# EAGLE library part FDG6316P (library alvie)
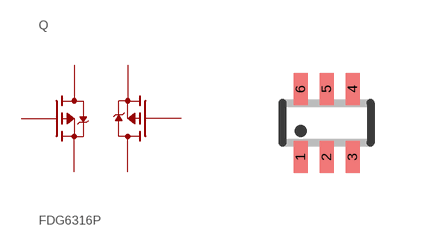
[diagram p33: symbol with the pads of SC70-6; footprint SC70-6]

Designator prefix Q

## FDG6316P  [SC70-6]
1  S1  pas
2  G1  pas
3  D2  pas
4  S2  pas
5  G2  pas
6  D1  pas

## Footprint SC70-6 (pad centres in mm)
smd 0.35 x 0.8: 1 -0.65,-0.85; 2 0,-0.85; 3 0.65,-0.85; 4 0.65,0.85; 5 0,0.85; 6 -0.65,0.85